# EAGLE library part TPS774 (library texas-instruments)
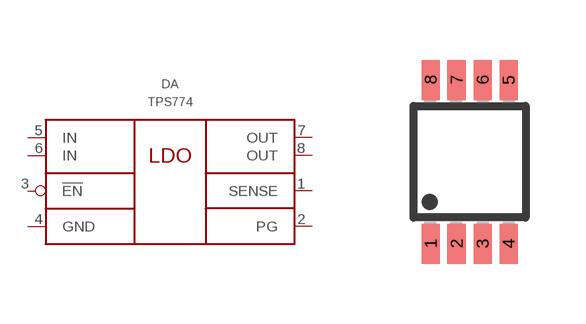
[diagram p27: symbol with the pads of MSOP8; footprint MSOP8]

Designator prefix DA

## TPS77450DGK  [MSOP8]
1  SENSE  in
2  PG  out
3  !EN  in
4  GND  pwr
5  IN  pwr
6  IN  pwr
7  OUT  pwr
8  OUT  pwr

## TPS77433DGK  [MSOP8]
Pads as for MSOP8

## TPS77428DGK  [MSOP8]
Pads as for MSOP8

## TPS77427DGK  [MSOP8]
Pads as for MSOP8

## TPS77418DGK  [MSOP8]
Pads as for MSOP8

## TPS77415DGK  [MSOP8]
Pads as for MSOP8

## Footprint MSOP8 (pad centres in mm)
Micro Small Outline Package Grid .65mm
smd 0.45 x 1: 1 -0.975,-2.05; 2 -0.325,-2.05; 3 0.325,-2.05; 4 0.975,-2.05; 5 0.975,2.05; 6 0.325,2.05; 7 -0.325,2.05; 8 -0.975,2.05